# EAGLE library part ASP-134488-01 (library con-samtec-asp)
VITA 57 CONNECTOR
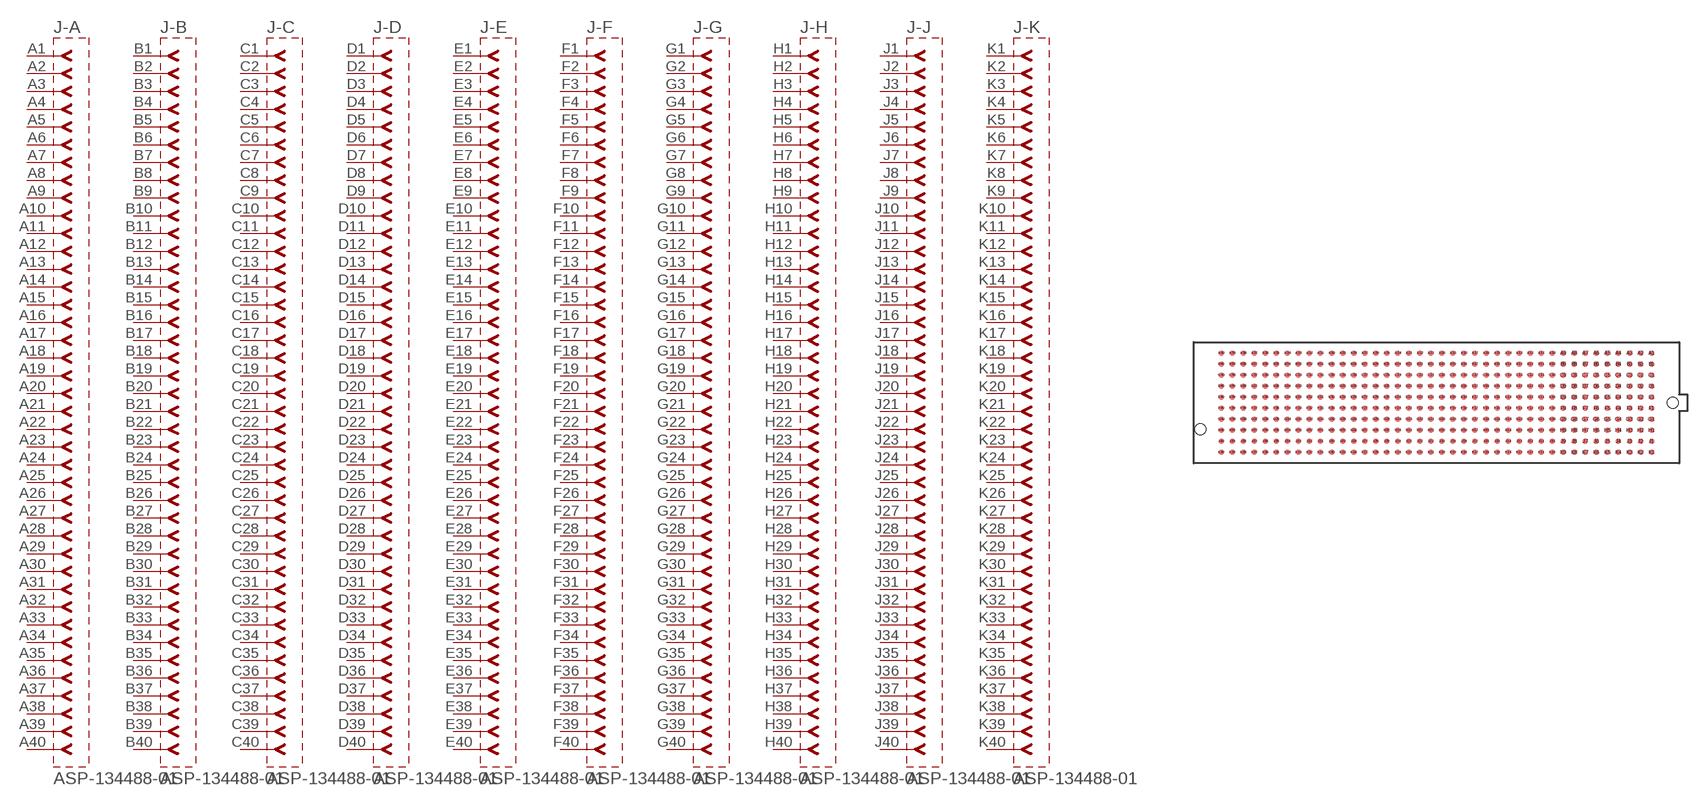
[diagram p0: symbol with the pads of ASP-134488-01; footprint ASP-134488-01]

Designator prefix J; gates -A=FE40-1 -B=FE40-1 -C=FE40-1 -D=FE40-1 -E=FE40-1 -F=FE40-1 -G=FE40-1 -H=FE40-1 -J=FE40-1 -K=FE40-1

## ASP-134488-01  [ASP-134488-01]
A1  -A:1  pas
A2  -A:2  pas
A3  -A:3  pas
A4  -A:4  pas
A5  -A:5  pas
A6  -A:6  pas
A7  -A:7  pas
A8  -A:8  pas
A9  -A:9  pas
A10  -A:10  pas
A11  -A:11  pas
A12  -A:12  pas
A13  -A:13  pas
A14  -A:14  pas
A15  -A:15  pas
A16  -A:16  pas
A17  -A:17  pas
A18  -A:18  pas
A19  -A:19  pas
A20  -A:20  pas
A21  -A:21  pas
A22  -A:22  pas
A23  -A:23  pas
A24  -A:24  pas
A25  -A:25  pas
A26  -A:26  pas
A27  -A:27  pas
A28  -A:28  pas
A29  -A:29  pas
A30  -A:30  pas
A31  -A:31  pas
A32  -A:32  pas
A33  -A:33  pas
A34  -A:34  pas
A35  -A:35  pas
A36  -A:36  pas
A37  -A:37  pas
A38  -A:38  pas
A39  -A:39  pas
A40  -A:40  pas
B1  -B:1  pas
B2  -B:2  pas
B3  -B:3  pas
B4  -B:4  pas
B5  -B:5  pas
B6  -B:6  pas
B7  -B:7  pas
B8  -B:8  pas
B9  -B:9  pas
B10  -B:10  pas
B11  -B:11  pas
B12  -B:12  pas
B13  -B:13  pas
B14  -B:14  pas
B15  -B:15  pas
B16  -B:16  pas
B17  -B:17  pas
B18  -B:18  pas
B19  -B:19  pas
B20  -B:20  pas
B21  -B:21  pas
B22  -B:22  pas
B23  -B:23  pas
B24  -B:24  pas
B25  -B:25  pas
B26  -B:26  pas
B27  -B:27  pas
B28  -B:28  pas
B29  -B:29  pas
B30  -B:30  pas
B31  -B:31  pas
B32  -B:32  pas
B33  -B:33  pas
B34  -B:34  pas
B35  -B:35  pas
B36  -B:36  pas
B37  -B:37  pas
B38  -B:38  pas
B39  -B:39  pas
B40  -B:40  pas
C1  -C:1  pas
C2  -C:2  pas
C3  -C:3  pas
C4  -C:4  pas
C5  -C:5  pas
C6  -C:6  pas
C7  -C:7  pas
C8  -C:8  pas
C9  -C:9  pas
C10  -C:10  pas
C11  -C:11  pas
C12  -C:12  pas
C13  -C:13  pas
C14  -C:14  pas
C15  -C:15  pas
C16  -C:16  pas
C17  -C:17  pas
C18  -C:18  pas
C19  -C:19  pas
C20  -C:20  pas
C21  -C:21  pas
C22  -C:22  pas
C23  -C:23  pas
C24  -C:24  pas
C25  -C:25  pas
C26  -C:26  pas
C27  -C:27  pas
C28  -C:28  pas
C29  -C:29  pas
C30  -C:30  pas
C31  -C:31  pas
C32  -C:32  pas
C33  -C:33  pas
C34  -C:34  pas
C35  -C:35  pas
C36  -C:36  pas
C37  -C:37  pas
C38  -C:38  pas
C39  -C:39  pas
C40  -C:40  pas
D1  -D:1  pas
D2  -D:2  pas
D3  -D:3  pas
D4  -D:4  pas
D5  -D:5  pas
D6  -D:6  pas
D7  -D:7  pas
D8  -D:8  pas
D9  -D:9  pas
D10  -D:10  pas
D11  -D:11  pas
D12  -D:12  pas
D13  -D:13  pas
D14  -D:14  pas
D15  -D:15  pas
D16  -D:16  pas
D17  -D:17  pas
D18  -D:18  pas
D19  -D:19  pas
D20  -D:20  pas
D21  -D:21  pas
D22  -D:22  pas
D23  -D:23  pas
D24  -D:24  pas
D25  -D:25  pas
D26  -D:26  pas
D27  -D:27  pas
D28  -D:28  pas
D29  -D:29  pas
D30  -D:30  pas
D31  -D:31  pas
D32  -D:32  pas
D33  -D:33  pas
D34  -D:34  pas
D35  -D:35  pas
D36  -D:36  pas
D37  -D:37  pas
D38  -D:38  pas
D39  -D:39  pas
D40  -D:40  pas
E1  -E:1  pas
E2  -E:2  pas
E3  -E:3  pas
E4  -E:4  pas
E5  -E:5  pas
E6  -E:6  pas
E7  -E:7  pas
E8  -E:8  pas
E9  -E:9  pas
E10  -E:10  pas
E11  -E:11  pas
E12  -E:12  pas
E13  -E:13  pas
E14  -E:14  pas
E15  -E:15  pas
E16  -E:16  pas
E17  -E:17  pas
E18  -E:18  pas
E19  -E:19  pas
E20  -E:20  pas
E21  -E:21  pas
E22  -E:22  pas
E23  -E:23  pas
E24  -E:24  pas
E25  -E:25  pas
E26  -E:26  pas
E27  -E:27  pas
E28  -E:28  pas
E29  -E:29  pas
E30  -E:30  pas
E31  -E:31  pas
E32  -E:32  pas
E33  -E:33  pas
E34  -E:34  pas
E35  -E:35  pas
E36  -E:36  pas
E37  -E:37  pas
E38  -E:38  pas
E39  -E:39  pas
E40  -E:40  pas
F1  -F:1  pas
F2  -F:2  pas
F3  -F:3  pas
F4  -F:4  pas
F5  -F:5  pas
F6  -F:6  pas
F7  -F:7  pas
F8  -F:8  pas
F9  -F:9  pas
F10  -F:10  pas
F11  -F:11  pas
F12  -F:12  pas
F13  -F:13  pas
F14  -F:14  pas
F15  -F:15  pas
F16  -F:16  pas
F17  -F:17  pas
F18  -F:18  pas
F19  -F:19  pas
F20  -F:20  pas
F21  -F:21  pas
F22  -F:22  pas
F23  -F:23  pas
F24  -F:24  pas
F25  -F:25  pas
F26  -F:26  pas
F27  -F:27  pas
F28  -F:28  pas
F29  -F:29  pas
F30  -F:30  pas
F31  -F:31  pas
F32  -F:32  pas
F33  -F:33  pas
F34  -F:34  pas
F35  -F:35  pas
F36  -F:36  pas
F37  -F:37  pas
F38  -F:38  pas
F39  -F:39  pas
F40  -F:40  pas
G1  -G:1  pas
G2  -G:2  pas
G3  -G:3  pas
G4  -G:4  pas
G5  -G:5  pas
G6  -G:6  pas
G7  -G:7  pas
G8  -G:8  pas
G9  -G:9  pas
G10  -G:10  pas
G11  -G:11  pas
G12  -G:12  pas
G13  -G:13  pas
G14  -G:14  pas
G15  -G:15  pas
G16  -G:16  pas
G17  -G:17  pas
G18  -G:18  pas
G19  -G:19  pas
G20  -G:20  pas
G21  -G:21  pas
G22  -G:22  pas
G23  -G:23  pas
G24  -G:24  pas
G25  -G:25  pas
G26  -G:26  pas
G27  -G:27  pas
G28  -G:28  pas
G29  -G:29  pas
G30  -G:30  pas
G31  -G:31  pas
G32  -G:32  pas
G33  -G:33  pas
G34  -G:34  pas
G35  -G:35  pas
G36  -G:36  pas
G37  -G:37  pas
G38  -G:38  pas
G39  -G:39  pas
G40  -G:40  pas
H1  -H:1  pas
H2  -H:2  pas
H3  -H:3  pas
H4  -H:4  pas
H5  -H:5  pas
H6  -H:6  pas
H7  -H:7  pas
H8  -H:8  pas
H9  -H:9  pas
H10  -H:10  pas
H11  -H:11  pas
H12  -H:12  pas
H13  -H:13  pas
H14  -H:14  pas
H15  -H:15  pas
H16  -H:16  pas
H17  -H:17  pas
H18  -H:18  pas
H19  -H:19  pas
H20  -H:20  pas
H21  -H:21  pas
H22  -H:22  pas
H23  -H:23  pas
H24  -H:24  pas
H25  -H:25  pas
H26  -H:26  pas
H27  -H:27  pas
H28  -H:28  pas
H29  -H:29  pas
H30  -H:30  pas
H31  -H:31  pas
H32  -H:32  pas
H33  -H:33  pas
H34  -H:34  pas
H35  -H:35  pas
H36  -H:36  pas
H37  -H:37  pas
H38  -H:38  pas
H39  -H:39  pas
H40  -H:40  pas
J1  -J:1  pas
J2  -J:2  pas
J3  -J:3  pas
J4  -J:4  pas
J5  -J:5  pas
J6  -J:6  pas
J7  -J:7  pas
J8  -J:8  pas
J9  -J:9  pas
J10  -J:10  pas
J11  -J:11  pas
J12  -J:12  pas
J13  -J:13  pas
J14  -J:14  pas
J15  -J:15  pas
J16  -J:16  pas
J17  -J:17  pas
J18  -J:18  pas
J19  -J:19  pas
J20  -J:20  pas
J21  -J:21  pas
J22  -J:22  pas
J23  -J:23  pas
J24  -J:24  pas
J25  -J:25  pas
J26  -J:26  pas
J27  -J:27  pas
J28  -J:28  pas
J29  -J:29  pas
J30  -J:30  pas
J31  -J:31  pas
J32  -J:32  pas
J33  -J:33  pas
J34  -J:34  pas
J35  -J:35  pas
J36  -J:36  pas
J37  -J:37  pas
J38  -J:38  pas
J39  -J:39  pas
J40  -J:40  pas
K1  -K:1  pas
K2  -K:2  pas
K3  -K:3  pas
K4  -K:4  pas
K5  -K:5  pas
K6  -K:6  pas
K7  -K:7  pas
K8  -K:8  pas
K9  -K:9  pas
K10  -K:10  pas
K11  -K:11  pas
K12  -K:12  pas
K13  -K:13  pas
K14  -K:14  pas
K15  -K:15  pas
K16  -K:16  pas
K17  -K:17  pas
K18  -K:18  pas
K19  -K:19  pas
K20  -K:20  pas
K21  -K:21  pas
K22  -K:22  pas
K23  -K:23  pas
K24  -K:24  pas
K25  -K:25  pas
K26  -K:26  pas
K27  -K:27  pas
K28  -K:28  pas
K29  -K:29  pas
K30  -K:30  pas
K31  -K:31  pas
K32  -K:32  pas
K33  -K:33  pas
K34  -K:34  pas
K35  -K:35  pas
K36  -K:36  pas
K37  -K:37  pas
K38  -K:38  pas
K39  -K:39  pas
K40  -K:40  pas

## Footprint ASP-134488-01 (pad centres in mm)
VITA 57 CONNECTOR .050 PITCH TERMINAL ARRAY ASSEMBLY
smd 0.635 x 0.635: A1 24.765,5.715; A2 23.495,5.715; A3 22.225,5.715; A4 20.955,5.715; A5 19.685,5.715; A6 18.415,5.715; A7 17.145,5.715; A8 15.875,5.715; A9 14.605,5.715; A10 13.335,5.715; A11 12.065,5.715; A12 10.795,5.715; A13 9.525,5.715; A14 8.255,5.715; A15 6.985,5.715; A16 5.715,5.715; A17 4.445,5.715; A18 3.175,5.715; A19 1.905,5.715; A20 0.635,5.715; A21 -0.635,5.715; A22 -1.905,5.715; A23 -3.175,5.715; A24 -4.445,5.715; A25 -5.715,5.715; A26 -6.985,5.715; A27 -8.255,5.715; A28 -9.525,5.715; A29 -10.795,5.715; A30 -12.065,5.715; A31 -13.335,5.715; A32 -14.605,5.715; A33 -15.875,5.715; A34 -17.145,5.715; A35 -18.415,5.715; A36 -19.685,5.715; A37 -20.955,5.715; A38 -22.225,5.715; A39 -23.495,5.715; A40 -24.765,5.715; B1 24.765,4.445; B2 23.495,4.445; B3 22.225,4.445; B4 20.955,4.445; B5 19.685,4.445; B6 18.415,4.445; B7 17.145,4.445; B8 15.875,4.445; B9 14.605,4.445; B10 13.335,4.445; B11 12.065,4.445; B12 10.795,4.445; B13 9.525,4.445; B14 8.255,4.445; B15 6.985,4.445; B16 5.715,4.445; B17 4.445,4.445; B18 3.175,4.445; B19 1.905,4.445; B20 0.635,4.445; B21 -0.635,4.445; B22 -1.905,4.445; B23 -3.175,4.445; B24 -4.445,4.445; B25 -5.715,4.445; B26 -6.985,4.445; B27 -8.255,4.445; B28 -9.525,4.445; B29 -10.795,4.445; B30 -12.065,4.445; B31 -13.335,4.445; B32 -14.605,4.445; B33 -15.875,4.445; B34 -17.145,4.445; B35 -18.415,4.445; B36 -19.685,4.445; B37 -20.955,4.445; B38 -22.225,4.445; B39 -23.495,4.445; B40 -24.765,4.445; C1 24.765,3.175; C2 23.495,3.175; C3 22.225,3.175; C4 20.955,3.175; C5 19.685,3.175; C6 18.415,3.175; C7 17.145,3.175; C8 15.875,3.175; C9 14.605,3.175; C10 13.335,3.175; C11 12.065,3.175; C12 10.795,3.175; C13 9.525,3.175; C14 8.255,3.175; C15 6.985,3.175; C16 5.715,3.175; C17 4.445,3.175; C18 3.175,3.175; C19 1.905,3.175; C20 0.635,3.175; C21 -0.635,3.175; C22 -1.905,3.175; C23 -3.175,3.175; C24 -4.445,3.175; C25 -5.715,3.175; C26 -6.985,3.175; C27 -8.255,3.175; C28 -9.525,3.175; C29 -10.795,3.175; C30 -12.065,3.175; C31 -13.335,3.175; C32 -14.605,3.175; C33 -15.875,3.175; C34 -17.145,3.175; C35 -18.415,3.175; C36 -19.685,3.175; C37 -20.955,3.175; C38 -22.225,3.175; C39 -23.495,3.175; C40 -24.765,3.175; D1 24.765,1.905; D2 23.495,1.905; D3 22.225,1.905; D4 20.955,1.905; D5 19.685,1.905; D6 18.415,1.905; D7 17.145,1.905; D8 15.875,1.905; D9 14.605,1.905; D10 13.335,1.905; D11 12.065,1.905; D12 10.795,1.905; D13 9.525,1.905; D14 8.255,1.905; D15 6.985,1.905; D16 5.715,1.905; D17 4.445,1.905; D18 3.175,1.905; D19 1.905,1.905; D20 0.635,1.905; D21 -0.635,1.905; D22 -1.905,1.905; D23 -3.175,1.905; D24 -4.445,1.905; D25 -5.715,1.905; D26 -6.985,1.905; D27 -8.255,1.905; D28 -9.525,1.905; D29 -10.795,1.905; D30 -12.065,1.905; D31 -13.335,1.905; D32 -14.605,1.905; D33 -15.875,1.905; D34 -17.145,1.905; D35 -18.415,1.905; D36 -19.685,1.905; D37 -20.955,1.905; D38 -22.225,1.905; D39 -23.495,1.905; D40 -24.765,1.905; E1 24.765,0.635; E2 23.495,0.635; E3 22.225,0.635; E4 20.955,0.635; E5 19.685,0.635; E6 18.415,0.635; E7 17.145,0.635; E8 15.875,0.635; E9 14.605,0.635; E10 13.335,0.635; E11 12.065,0.635; E12 10.795,0.635; E13 9.525,0.635; E14 8.255,0.635; E15 6.985,0.635; E16 5.715,0.635; E17 4.445,0.635; E18 3.175,0.635; E19 1.905,0.635; E20 0.635,0.635; E21 -0.635,0.635; E22 -1.905,0.635; E23 -3.175,0.635; E24 -4.445,0.635; E25 -5.715,0.635; E26 -6.985,0.635; E27 -8.255,0.635; E28 -9.525,0.635; E29 -10.795,0.635; E30 -12.065,0.635; E31 -13.335,0.635; E32 -14.605,0.635; E33 -15.875,0.635; E34 -17.145,0.635; E35 -18.415,0.635; E36 -19.685,0.635; E37 -20.955,0.635; E38 -22.225,0.635; E39 -23.495,0.635; E40 -24.765,0.635; F1 24.765,-0.635; F2 23.495,-0.635; F3 22.225,-0.635; F4 20.955,-0.635; F5 19.685,-0.635; F6 18.415,-0.635; F7 17.145,-0.635; F8 15.875,-0.635; F9 14.605,-0.635; F10 13.335,-0.635; F11 12.065,-0.635; F12 10.795,-0.635; F13 9.525,-0.635; F14 8.255,-0.635; F15 6.985,-0.635; F16 5.715,-0.635; F17 4.445,-0.635; F18 3.175,-0.635; F19 1.905,-0.635; F20 0.635,-0.635; F21 -0.635,-0.635; F22 -1.905,-0.635; F23 -3.175,-0.635; F24 -4.445,-0.635; F25 -5.715,-0.635; F26 -6.985,-0.635; F27 -8.255,-0.635; F28 -9.525,-0.635; F29 -10.795,-0.635; F30 -12.065,-0.635; F31 -13.335,-0.635; F32 -14.605,-0.635; F33 -15.875,-0.635; F34 -17.145,-0.635; F35 -18.415,-0.635; F36 -19.685,-0.635; F37 -20.955,-0.635; F38 -22.225,-0.635; F39 -23.495,-0.635; F40 -24.765,-0.635; G1 24.765,-1.905; G2 23.495,-1.905; G3 22.225,-1.905; G4 20.955,-1.905; G5 19.685,-1.905; G6 18.415,-1.905; G7 17.145,-1.905; G8 15.875,-1.905; G9 14.605,-1.905; G10 13.335,-1.905; G11 12.065,-1.905; G12 10.795,-1.905; G13 9.525,-1.905; G14 8.255,-1.905; G15 6.985,-1.905; G16 5.715,-1.905; G17 4.445,-1.905; G18 3.175,-1.905; G19 1.905,-1.905; G20 0.635,-1.905; G21 -0.635,-1.905; G22 -1.905,-1.905; G23 -3.175,-1.905; G24 -4.445,-1.905; G25 -5.715,-1.905; G26 -6.985,-1.905; G27 -8.255,-1.905; G28 -9.525,-1.905; G29 -10.795,-1.905; G30 -12.065,-1.905; G31 -13.335,-1.905; G32 -14.605,-1.905; G33 -15.875,-1.905; G34 -17.145,-1.905; G35 -18.415,-1.905; G36 -19.685,-1.905; G37 -20.955,-1.905; G38 -22.225,-1.905; G39 -23.495,-1.905; G40 -24.765,-1.905; H1 24.765,-3.175; H2 23.495,-3.175; H3 22.225,-3.175; H4 20.955,-3.175; H5 19.685,-3.175; H6 18.415,-3.175; H7 17.145,-3.175; H8 15.875,-3.175; H9 14.605,-3.175; H10 13.335,-3.175; H11 12.065,-3.175; H12 10.795,-3.175; H13 9.525,-3.175; H14 8.255,-3.175; H15 6.985,-3.175; H16 5.715,-3.175; H17 4.445,-3.175; H18 3.175,-3.175; H19 1.905,-3.175; H20 0.635,-3.175; H21 -0.635,-3.175; H22 -1.905,-3.175; H23 -3.175,-3.175; H24 -4.445,-3.175; H25 -5.715,-3.175; H26 -6.985,-3.175; H27 -8.255,-3.175; H28 -9.525,-3.175; H29 -10.795,-3.175; H30 -12.065,-3.175; H31 -13.335,-3.175; H32 -14.605,-3.175; H33 -15.875,-3.175; H34 -17.145,-3.175; H35 -18.415,-3.175; H36 -19.685,-3.175; H37 -20.955,-3.175; H38 -22.225,-3.175; H39 -23.495,-3.175; H40 -24.765,-3.175; J1 24.765,-4.445; J2 23.495,-4.445; J3 22.225,-4.445; J4 20.955,-4.445; J5 19.685,-4.445; J6 18.415,-4.445; J7 17.145,-4.445; J8 15.875,-4.445; J9 14.605,-4.445; J10 13.335,-4.445; J11 12.065,-4.445; J12 10.795,-4.445; J13 9.525,-4.445; J14 8.255,-4.445; J15 6.985,-4.445; J16 5.715,-4.445; J17 4.445,-4.445; J18 3.175,-4.445; J19 1.905,-4.445; J20 0.635,-4.445; J21 -0.635,-4.445; J22 -1.905,-4.445; J23 -3.175,-4.445; J24 -4.445,-4.445; J25 -5.715,-4.445; J26 -6.985,-4.445; J27 -8.255,-4.445; J28 -9.525,-4.445; J29 -10.795,-4.445; J30 -12.065,-4.445; J31 -13.335,-4.445; J32 -14.605,-4.445; J33 -15.875,-4.445; J34 -17.145,-4.445; J35 -18.415,-4.445; J36 -19.685,-4.445; J37 -20.955,-4.445; J38 -22.225,-4.445; J39 -23.495,-4.445; J40 -24.765,-4.445; K1 24.765,-5.715; K2 23.495,-5.715; K3 22.225,-5.715; K4 20.955,-5.715; K5 19.685,-5.715; K6 18.415,-5.715; K7 17.145,-5.715; K8 15.875,-5.715; K9 14.605,-5.715; K10 13.335,-5.715; K11 12.065,-5.715; K12 10.795,-5.715; K13 9.525,-5.715; K14 8.255,-5.715; K15 6.985,-5.715; K16 5.715,-5.715; K17 4.445,-5.715; K18 3.175,-5.715; K19 1.905,-5.715; K20 0.635,-5.715; K21 -0.635,-5.715; K22 -1.905,-5.715; K23 -3.175,-5.715; K24 -4.445,-5.715; K25 -5.715,-5.715; K26 -6.985,-5.715; K27 -8.255,-5.715; K28 -9.525,-5.715; K29 -10.795,-5.715; K30 -12.065,-5.715; K31 -13.335,-5.715; K32 -14.605,-5.715; K33 -15.875,-5.715; K34 -17.145,-5.715; K35 -18.415,-5.715; K36 -19.685,-5.715; K37 -20.955,-5.715; K38 -22.225,-5.715; K39 -23.495,-5.715; K40 -24.765,-5.715
hole 1.27 at -27.191,-3.048
hole 1.27 at 27.191,0